# Altium footprint library Ahrist_Library.PcbLib: 172 footprints (part 10 of 11)
Each footprint in its own frame and in the unit in brackets; x right, y up, seen from the top. Pads: shape width x height; smd on the part's side, far side on the other; paste and mask are expansions set on the pad; w line width, h text height; cw(c..) or ccw(c..) is an arc to the next point about the centre after c.
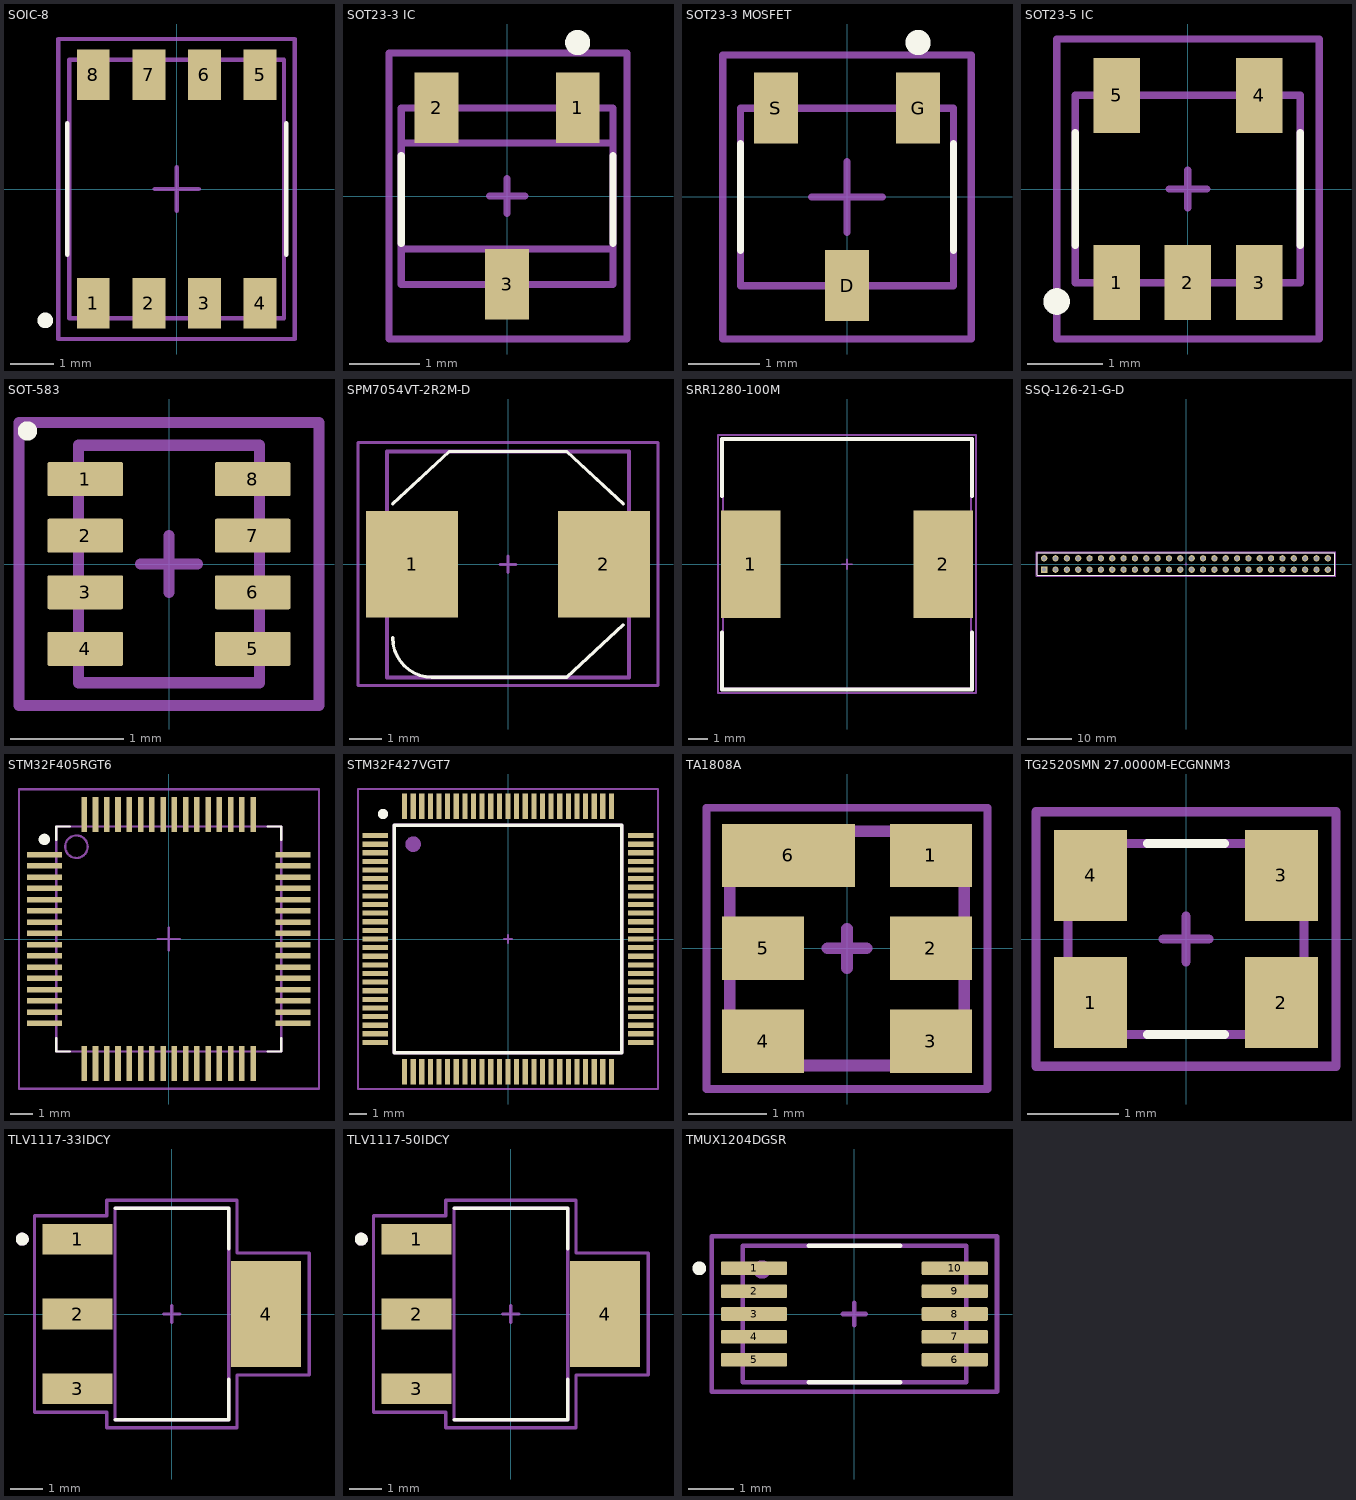
[diagram p9: the footprints below, top view; thin cyan lines are the x and y axes]

## SOIC-8 [mm] "SOIC-8 Analog Devices Spec"
pads (8):
  rect 0.75x1.15 smd mask+0.05: 1(-1.905,-2.605) 2(-0.635,-2.605) 3(0.635,-2.605) 4(1.905,-2.605) 5(1.905,2.605) 6(0.635,2.605) 7(-0.635,2.605) 8(-1.905,2.605)
Top Overlay:
  circle w0.254: c-3,-3 r0.05
  lines w0.1: -2.5,-1.5 -2.5,1.5 ; 2.5,-1.5 2.5,1.5
Top Courtyard:
  lines w0.1: -2.7,-3.425 -2.7,3.425 2.7,3.425 2.7,-3.425 -1.9,-3.425 -2.7,-3.425
Top Assembly:
  lines w0.1: -2.45,-2.95 -2.45,2.95 2.45,2.95 2.45,-2.95 -2.45,-2.95
Top Designator:
  text ".Designator" at -1.225,-0.339 h1.52
Top Component Center:
  lines w0.1: 0,-0.5 0,0 ; 0,0 0,0.5 0,0 ; 0,0 0.5,0 -0.5,0 0,0
3D body "SOIC8.STEP": height 1.5, standoff 0, extent -2.45,-2.95 2.45,2.95

## SOT23-3 IC [mm] "Diodes Incorporated SOT-23 land pattern with IC pin designators"
pads (3):
  rect 0.62x1 smd mask+0.05: 1(1,1.25) 2(-1,1.25) 3(0,-1.25)
Top Overlay:
  circle w0.254: c1,2.175 r0.05
  lines w0.1: -1.5,-0.675 -1.5,0.575 ; 1.5,-0.675 1.5,0.575
Top Courtyard:
  lines w0.1: -1.675,-2.025 -1.675,2.025 1.7,2.025 1.7,-2.025 -0.975,-2.025 -1.675,-2.025
Top Assembly:
  lines w0.1: -1.5,-1.25 -1.5,1.25 1.5,1.25 1.5,-1.25 -1.5,-1.25
Top Designator:
  text ".Designator" at -1.25,-0.464 h1.52
Top Component Outline:
  lines w0.1: -1.5,-0.75 1.5,-0.75 1.5,0.75 -1.5,0.75 -1.5,-0.75
Top Component Center:
  lines w0.1: 0,-0.25 0,0 ; 0,0 0,0.25 0,0 ; 0,0 0.25,0 -0.25,0 0,0
3D body "SOT23-3.stp": height 1.2, standoff 0.02, extent -1.5,-1.418 1.5,1.418

## SOT23-3 MOSFET [mm] "Diodes Incorporated SOT-23 land pattern with MOSFET pin designators"
pads (3):
  rect 0.62x1 smd: D(0,-1.25) G(1,1.25) S(-1,1.25)
Top Overlay:
  circle w0.254: c1,2.175 r0.05
  lines w0.1: -1.5,-0.75 -1.5,0.75 ; 1.5,-0.75 1.5,0.75
Top Courtyard:
  lines w0.1: -1.75,-2 -1.75,2 1.75,2 1.75,-2 -1,-2 -1.75,-2
Top Assembly:
  lines w0.1: -1.5,-1.25 -1.5,1.25 1.5,1.25 1.5,-1.25 -1.5,-1.25
  text ".Designator" at -1.25,-0.464 h1.52
Top Component Center:
  lines w0.1: -0.5,0 0,0 ; 0,-0.5 0,0 ; 0,0.5 0,0 ; 0.5,0 0,0
3D body "SOT23-3.stp": height 1.2, standoff 0.02, extent -1.5,-1.418 1.5,1.418

## SOT23-5 IC [mm] "SOT23-5"
pads (5):
  rect 0.62x1 smd mask+0.075: 1(-0.95,-1.25) 2(0,-1.25) 3(0.95,-1.25) 4(0.95,1.25) 5(-0.95,1.25)
Top Overlay:
  circle w0.254: c-1.75,-1.5 r0.05
  lines w0.1: -1.5,-0.75 -1.5,0.75 ; 1.5,-0.75 1.5,0.75
Top Courtyard:
  lines w0.1: -1.75,-2 -1,-2 1.75,-2 1.75,2 -1.75,2 -1.75,-2
Top Assembly:
  lines w0.1: -1.5,-1.25 1.5,-1.25 1.5,1.25 -1.5,1.25 -1.5,-1.25
Top Designator:
  text ".Designator" at -1.25,-0.464 h1.52
Top Component Outline:
  lines w0.1: -1.5,-1.25 1.5,-1.25 1.5,1.25 -1.5,1.25 -1.5,-1.25
Top Component Center:
  lines w0.1: 0,-0.25 0,0 ; 0,0 -0.25,0 0.25,0 0,0 ; 0,0 0,0.25 0,0
3D body "SOT23-5.stp": height 1.1, standoff 0, extent -1.5,-1.25 1.5,1.25

## SOT-583 [mm] "Texas Instruments SOT-583"
pads (8):
  rrect10% 0.67x0.3 smd mask+0.05: 1(-0.74,0.75) 2(-0.74,0.25) 3(-0.74,-0.25) 4(-0.74,-0.75) 5(0.74,-0.75) 6(0.74,-0.25) 7(0.74,0.25) 8(0.74,0.75)
Top Overlay:
  circle w0.1: c-1.25,1.175 r0.035
Top Courtyard:
  lines w0.1: -1.325,-1.25 -0.7,-1.25 1.325,-1.25 1.325,-0.8 1.325,1.25 0.7,1.25 -1.325,1.25 -1.325,0.8 -1.325,-1.25
Top Assembly:
  circle w0.1: c-0.575,0.75 r0.035
  lines w0.1: 0.15,-1.05 0.8,-1.05 0.8,1.05 -0.8,1.05 -0.8,-1.05 0.4,-1.05
Top Designator:
  text ".Designator" at -0.4,-0.162 h1
Top Component Outline:
  lines w0.1: 0.15,-1.05 0.8,-1.05 0.8,1.05 -0.8,1.05 -0.8,-1.05 0.4,-1.05
Top Component Center:
  lines w0.1: 0,-0.25 0,0 ; 0,0 0,0.25 0,0 ; 0,0 0.25,0 -0.25,0 0,0
3D body "TPS62933PDRLR--3DModel-STEP-740395.STEP": height 0.6, standoff 0, extent -0.8,-1.05 0.8,1.05

## SPM7054VT-2R2M-D [mm] "SPM7054VT-2R2M-D"
pads (2):
  rect 2.85x3.3 smd mask+0.05: 1(-2.975,0) 2(2.975,0)
Top Overlay:
  lines w0.1: -3.575,-2.275 ccw(c-2.35,-2.275) -2.35,-3.5 ; -3.575,1.875 -1.825,3.5 1.825,3.5 3.575,1.875 ; -2.375,-3.5 1.825,-3.5 3.575,-1.875
Top Courtyard:
  lines w0.1: -4.65,-3.75 4.65,-3.75 4.65,3.775 -4.65,3.775 -4.65,-3.75
Top Assembly:
  lines w0.127: -3.75,-3.5 -3.75,3.5 3.75,3.5 3.75,-3.5 -3.75,-3.5
Top Designator:
  text ".Designator" at -0.471,-0.137 h1
Top Component Outline:
  lines w0.127: -3.75,-3.5 3.75,-3.5 3.75,3.5 -3.75,3.5 -3.75,-3.5
Top Component Center:
  lines w0.1: 0,-0.25 0,0 ; 0,0 0,0.25 0,0 ; 0,0 0.25,0 0,0 ; 0,0 -0.25,0 0,0
3D body "step_temp.STEP": height 5.4, standoff 0, extent -3.75,-3.5 3.75,3.5

## SRR1280-100M [mm] "12.50mm x 12.50mm Inductor"
pads (2):
  rect 3x5.4 smd mask+0.05: 1(-4.85,0) 2(4.85,0)
Top Overlay:
  lines w0.2: -6.3,-3.425 -6.3,-6.3 6.3,-6.3 6.3,-3.425 ; -6.3,3.425 -6.3,6.3 6.3,6.3 6.3,3.425
Top Courtyard:
  lines w0.1: 6.425,-6.475 6.5,-6.475 6.5,6.5 -6.5,6.5 -6.5,6.125 -6.5,-6.475 6.45,-6.475
Top Assembly:
  lines w0.1: -0.3,-6.25 6.25,-6.25 6.25,6.25 -6.25,6.25 -6.25,-6.25 -0.275,-6.25
Top Designator:
  text ".Designator" at -0.5,-0.237 h1
Top Component Outline:
  lines w0.1: -0.3,-6.25 6.25,-6.25 6.25,6.25 -6.25,6.25 -6.25,-6.25 -0.275,-6.25
Top Component Center:
  lines w0.1: 0,-0.25 0,0 ; 0,0 0,0.25 0,0 ; 0,0 0.25,0 -0.25,0 0,0
3D body "srr1280-100m.stp": height 7.5, standoff 0, extent -6.25,-6.25 6.25,6.25

## SSQ-126-21-G-D [mm] "52 Position 0.100\" Header"
pads (52):
  rect 1.398x1.398 hole 0.89 mask+0.05: 1(-31.75,-1.27)
  round 1.398 hole 0.89 mask+0.05: 2(-29.21,-1.27) 3(-26.67,-1.27) 4(-24.13,-1.27) 5(-21.59,-1.27) 6(-19.05,-1.27) 7(-16.51,-1.27) 8(-13.97,-1.27) 9(-11.43,-1.27) 10(-8.89,-1.27) 11(-6.35,-1.27) 12(-3.81,-1.27) 13(-1.27,-1.27) 14(1.27,-1.27) 15(3.81,-1.27) 16(6.35,-1.27) 17(8.89,-1.27) 18(11.43,-1.27) 19(13.97,-1.27) 20(16.51,-1.27) 21(19.05,-1.27) 22(21.59,-1.27) 23(24.13,-1.27) 24(26.67,-1.27) 25(29.21,-1.27) 26(31.75,-1.27) 27(-31.75,1.27) 28(-29.21,1.27) 29(-26.67,1.27) 30(-24.13,1.27) 31(-21.59,1.27) 32(-19.05,1.27) 33(-16.51,1.27) 34(-13.97,1.27) 35(-11.43,1.27) 36(-8.89,1.27) 37(-6.35,1.27) 38(-3.81,1.27) 39(-1.27,1.27) 40(1.27,1.27) 41(3.81,1.27) 42(6.35,1.27) 43(8.89,1.27) 44(11.43,1.27) 45(13.97,1.27) 46(16.51,1.27) 47(19.05,1.27) 48(21.59,1.27) 49(24.13,1.27) 50(26.67,1.27) 51(29.21,1.27) 52(31.75,1.27)
Top Overlay:
  lines w0.2: -33.275,-2.475 -33.275,-1.4 -33.275,2.475 33.275,2.475 33.275,-2.475 -33.275,-2.475
Top Courtyard:
  lines w0.2: -33.575,-1 -33.575,2.775 33.575,2.775 33.575,-2.775 -33.575,-2.775 -33.575,-0.6
Top Assembly:
  lines w0.2: -33.275,0.75 -33.275,2.475 33.275,2.475 33.275,-2.475 -33.275,-2.475 -33.275,0.775
Top Designator:
  text ".Designator" at -0.85,-0.062 h1
Top Component Center:
  lines w0.1: 0,-0.25 0,0 ; 0,0 0,0.25 0,0 ; 0,0 0.25,0 -0.25,0 0,0
3D body "SSQ-126-21-G-D.stp": height 8.51, standoff -2.64, extent -33.274,-2.476 33.274,2.476

## STM32F405RGT6 [mm] "ARM® Cortex®-M4 STM32F4 Microcontroller IC 32-Bit Single-Core 168MHz 1MB (1M x 8) FLASH 64-LQFP (10x10)"
pads (64):
  rect 1.55x0.25 smd mask+0.05: 1(-5.525,3.75) 2(-5.525,3.25) 3(-5.525,2.75) 4(-5.525,2.25) 5(-5.525,1.75) 6(-5.525,1.25) 7(-5.525,0.75) 8(-5.525,0.25) 9(-5.525,-0.25) 10(-5.525,-0.75) 11(-5.525,-1.25) 12(-5.525,-1.75) 13(-5.525,-2.25) 14(-5.525,-2.75) 15(-5.525,-3.25) 16(-5.525,-3.75) 33(5.525,-3.75) 34(5.525,-3.25) 35(5.525,-2.75) 36(5.525,-2.25) 37(5.525,-1.75) 38(5.525,-1.25) 39(5.525,-0.75) 40(5.525,-0.25) 41(5.525,0.25) 42(5.525,0.75) 43(5.525,1.25) 44(5.525,1.75) 45(5.525,2.25) 46(5.525,2.75) 47(5.525,3.25) 48(5.525,3.75)
  rect 0.25x1.55 smd mask+0.05: 17(-3.75,-5.525) 18(-3.25,-5.525) 19(-2.75,-5.525) 20(-2.25,-5.525) 21(-1.75,-5.525) 22(-1.25,-5.525) 23(-0.75,-5.525) 24(-0.25,-5.525) 25(0.25,-5.525) 26(0.75,-5.525) 27(1.25,-5.525) 28(1.75,-5.525) 29(2.25,-5.525) 30(2.75,-5.525) 31(3.25,-5.525) 32(3.75,-5.525) 49(3.75,5.525) 50(3.25,5.525) 51(2.75,5.525) 52(2.25,5.525) 53(1.75,5.525) 54(1.25,5.525) 55(0.75,5.525) 56(0.25,5.525) 57(-0.25,5.525) 58(-0.75,5.525) 59(-1.25,5.525) 60(-1.75,5.525) 61(-2.25,5.525) 62(-2.75,5.525) 63(-3.25,5.525) 64(-3.75,5.525)
Top Overlay:
  circle w0.25: c-5.525,4.425 r0.125
  lines w0.1: -5,-4.4 -5,-5 -4.4,-5 ; -5,4.4 -5,5 ; 4.4,-5 5,-5 5,-4.4 ; 4.4,5 5,5 5,4.4 ; -5,5 -4.4,5 -5,5
Top Courtyard:
  lines w0.1: -6.65,-6.65 -6.65,6.65 6.675,6.65 6.675,-6.65 -6.65,-6.65
Top Assembly:
  circle w0.1: c-4.1,4.1 r0.5
  lines w0.1: -5,-5 5,-5 5,5 -5,5 -5,-5
  text ".Designator" at -1.25,-0.083 h0.5
Top Component Center:
  lines w0.1: -0.5,0 0.5,0 ; 0,-0.5 0,0.5
3D body "STM32F405RGT6.STEP": height 1.6, standoff 0, extent -6,-6 6,6

## STM32F427VGT7 [mm] "LQFP-100"
pads (100):
  rect 1.5x0.3 smd mask+0.05: 1(-7.7,6) 2(-7.7,5.5) 3(-7.7,5) 4(-7.7,4.5) 5(-7.7,4) 6(-7.7,3.5) 7(-7.7,3) 8(-7.7,2.5) 9(-7.7,2) 10(-7.7,1.5) 11(-7.7,1) 12(-7.7,0.5) 13(-7.7,0) 14(-7.7,-0.5) 15(-7.7,-1) 16(-7.7,-1.5) 17(-7.7,-2) 18(-7.7,-2.5) 19(-7.7,-3) 20(-7.7,-3.5) 21(-7.7,-4) 22(-7.7,-4.5) 23(-7.7,-5) 24(-7.7,-5.5) 25(-7.7,-6) 51(7.7,-6) 52(7.7,-5.5) 53(7.7,-5) 54(7.7,-4.5) 55(7.7,-4) 56(7.7,-3.5) 57(7.7,-3) 58(7.7,-2.5) 59(7.7,-2) 60(7.7,-1.5) 61(7.7,-1) 62(7.7,-0.5) 63(7.7,0) 64(7.7,0.5) 65(7.7,1) 66(7.7,1.5) 67(7.7,2) 68(7.7,2.5) 69(7.7,3) 70(7.7,3.5) 71(7.7,4) 72(7.7,4.5) 73(7.7,5) 74(7.7,5.5) 75(7.7,6)
  rect 0.3x1.5 smd mask+0.05: 26(-6,-7.7) 27(-5.5,-7.7) 28(-5,-7.7) 29(-4.5,-7.7) 30(-4,-7.7) 31(-3.5,-7.7) 32(-3,-7.7) 33(-2.5,-7.7) 34(-2,-7.7) 35(-1.5,-7.7) 36(-1,-7.7) 37(-0.5,-7.7) 38(0,-7.7) 39(0.5,-7.7) 40(1,-7.7) 41(1.5,-7.7) 42(2,-7.7) 43(2.5,-7.7) 44(3,-7.7) 45(3.5,-7.7) 46(4,-7.7) 47(4.5,-7.7) 48(5,-7.7) 49(5.5,-7.7) 50(6,-7.7) 76(6,7.7) 77(5.5,7.7) 78(5,7.7) 79(4.5,7.7) 80(4,7.7) 81(3.5,7.7) 82(3,7.7) 83(2.5,7.7) 84(2,7.7) 85(1.5,7.7) 86(1,7.7) 87(0.5,7.7) 88(0,7.7) 89(-0.5,7.7) 90(-1,7.7) 91(-1.5,7.7) 92(-2,7.7) 93(-2.5,7.7) 94(-3,7.7) 95(-3.5,7.7) 96(-4,7.7) 97(-4.5,7.7) 98(-5,7.7) 99(-5.5,7.7) 100(-6,7.7)
Top Overlay:
  circle w0.5: c-7.25,7.25 r0.05
  lines w0.2: -6.6,-6.6 -6.6,6.6 6.6,6.6 6.6,-6.6 -6.6,-6.6
Top Courtyard:
  lines w0.1: -8.7,-8.7 -8.7,8.7 8.7,8.7 8.7,-8.7 -8.7,-8.7
Top Assembly:
  circle w0.5: c-5.5,5.5 r0.2
  lines w0.2: -6.6,-6.6 -6.6,6.6 6.6,6.6 6.6,-6.6 -6.6,-6.6
Top Designator:
  text ".Designator" at -0.5,-0.062 h1
Top Component Outline:
  lines w0.2: -6.6,-6.6 -6.6,6.6 6.6,6.6 6.6,-6.6 -6.6,-6.6
Top Component Center:
  lines w0.1: 0,-0.25 0,0 ; 0,0 0,0.25 0,0 ; 0,0 0.25,0 -0.25,0 0,0
3D body "step_temp.STEP": height 1.6, standoff 0, extent -8,-8 8,8

## TA1808A [mm] "FILTER SAW 440MHZ 6-SMD"
pads (7):
  rect 1.05x0.81 smd mask+0.07: 1(1.075,1.19) 1(1.075,1.19) 2(1.075,0) 3(1.075,-1.19) 4(-1.075,-1.19) 5(-1.075,0)
  rect 1.7x0.81 smd mask+0.07: 6(-0.75,1.19)
Top Courtyard:
  lines w0.1: -1.8,-1.8 -1.8,-0.3 -1.8,1.8 1.8,1.8 1.8,-1.8 -1.8,-1.8
Top Assembly:
  circle w0.2: c-0.9,1 r0.1
  lines w0.1: 0,-1.5 1.5,-1.5 1.5,1.5 -1.5,1.5 -1.5,-1.5 0.025,-1.5
Top Designator:
  text ".Designator" at -0.44,-0.115 h0.6
Top Component Outline:
  lines w0.15: 0,-1.5 1.5,-1.5 1.5,1.5 -1.5,1.5 -1.5,-1.5 0.025,-1.5
Top Component Center:
  lines w0.15: 0,-0.25 0,0 ; 0,0 0,0.25 0,0 ; 0,0 0.25,0 -0.25,0 0,0
3D body "User Library-TA1163A.STEP": height 1.45, standoff -0.05, extent -1.5,-1.5 1.5,1.5

## TCA9511A [mm] "8-VSSOP"

## TG2520SMN 27.0000M-ECGNNM3 [mm] "XTAL OSC TCXO 27.0000MHZ CSWV SM"
pads (4):
  rect 0.8x1 smd mask+0.075: 1(-1.05,-0.7) 2(1.05,-0.7) 3(1.05,0.7) 4(-1.05,0.7)
Top Overlay:
  lines w0.1: -0.425,-1.05 0.425,-1.05 ; -0.425,1.05 0.425,1.05
Top Courtyard:
  lines w0.1: -1.65,-0.925 -1.65,1.4 -1.2,1.4 ; -1.65,-0.9 -1.65,-1.4 1.65,-1.4 1.65,1.4 -1.35,1.4
Top Assembly:
  circle w0.1: c-1,-0.7 r0.05
  lines w0.1: -1.3,-1.05 0.325,-1.05 1.3,-1.05 1.3,1.05 -1.3,1.05 -1.3,-1.05
Top Designator:
  text ".Designator" at -0.64,-0.24 h0.6
Top Component Outline:
  lines w0.1: -1.3,-1.05 0.325,-1.05 1.3,-1.05 1.3,1.05 -1.3,1.05 -1.3,-1.05
Top Component Center:
  lines w0.1: 0,-0.25 0,0 ; 0,0 0,0.25 0,0 ; 0,0 0.25,0 -0.25,0 0,0
3D body "TG2520SMN.stp": height 0.8, standoff -0.01, extent -1.3,-1.05 1.3,1.05

## TLV1117-33IDCY [mm] "4-SOT-223"
pads (4):
  rect 2.15x0.95 smd: 1(-2.9,2.3) 2(-2.9,0) 3(-2.9,-2.3)
  rect 2.15x3.25 smd: 4(2.9,0)
Top Overlay:
  circle w0.2: c-4.6,2.3 r0.1
  lines w0.1: -1.75,-3.25 1.75,-3.25 1.75,-2.01 ; -1.75,3.25 1.75,3.25 1.75,2.01
Top Courtyard:
  lines w0.1: -4.225,-3.025 -4.225,3.025 -2,3.025 -2,3.5 2,3.5 2,1.875 4.225,1.875 4.225,-1.875 2,-1.875 2,-3.5 -2,-3.5 -2,-3.025 -4.225,-3.025
Top Assembly:
  circle w0.2: c-4.6,2.3 r0.1
  lines w0.1: -1.75,-3.25 -1.75,3.25 1.75,3.25 1.75,-3.25 -1.75,-3.25
Top Designator:
  text ".Designator" at -0.59,-0.14 h0.6
Top Component Outline:
  lines w0.1: -1.75,-3.25 -1.75,3.25 1.75,3.25 1.75,-3.25 -1.75,-3.25
Top Component Center:
  lines w0.1: 0,-0.25 0,0 ; 0,0 0,0.25 0,0 ; 0,0 0.25,0 -0.25,0 0,0
3D body "step_temp.STEP": height 1.8, standoff 0, extent -3.499,-3.25 3.499,3.25

## TLV1117-50IDCY [mm] "4-SOT-223"
pads (4):
  rect 2.15x0.95 smd: 1(-2.9,2.3) 2(-2.9,0) 3(-2.9,-2.3)
  rect 2.15x3.25 smd: 4(2.9,0)
Top Overlay:
  circle w0.2: c-4.6,2.3 r0.1
  lines w0.1: -1.75,-3.25 1.75,-3.25 1.75,-2.01 ; -1.75,3.25 1.75,3.25 1.75,2.01
Top Courtyard:
  lines w0.1: -4.225,-3.025 -4.225,3.025 -2,3.025 -2,3.5 2,3.5 2,1.875 4.225,1.875 4.225,-1.875 2,-1.875 2,-3.5 -2,-3.5 -2,-3.025 -4.225,-3.025
Top Assembly:
  circle w0.2: c-4.6,2.3 r0.1
  lines w0.1: -1.75,-3.25 -1.75,3.25 1.75,3.25 1.75,-3.25 -1.75,-3.25
Top Designator:
  text ".Designator" at -0.59,-0.14 h0.6
Top Component Outline:
  lines w0.1: -1.75,-3.25 -1.75,3.25 1.75,3.25 1.75,-3.25 -1.75,-3.25
Top Component Center:
  lines w0.1: 0,-0.25 0,0 ; 0,0 0,0.25 0,0 ; 0,0 0.25,0 -0.25,0 0,0
3D body "step_temp.STEP": height 1.8, standoff 0, extent -3.499,-3.25 3.499,3.25

## TMUX1204DGSR [mm] "TMUX1204DGSR  10VSSOP"
pads (10):
  rrect20% 1.45x0.3 smd mask+0.075: 1(-2.2,1) 2(-2.2,0.5) 3(-2.2,0) 4(-2.2,-0.5) 5(-2.2,-1) 6(2.2,-1) 7(2.2,-0.5) 8(2.2,0) 9(2.2,0.5) 10(2.2,1)
Top Overlay:
  circle w0.2: c-3.4,1 r0.05
  lines w0.1: -1,-1.5 0,-1.5 1,-1.5 ; -1,1.5 0,1.5 1,1.5
Top Courtyard:
  lines w0.1: -3.125,-0.5 -3.125,1.7 1.25,1.7 3.125,1.7 3.125,0.5 3.125,-1.7 -1.25,-1.7 ; -3.125,-0.475 -3.125,-1.7 -1.225,-1.7
Top Assembly:
  circle w0.2: c-2.025,0.975 r0.1
  lines w0.1: -2.45,-1.425 -2.45,1.5 2.45,1.5 2.45,-1.5 -2.45,-1.5 -2.45,-1.4
Top Designator:
  text ".Designator" at -0.865,-0.04 h0.6
Top Component Center:
  lines w0.1: 0,-0.25 0,0 ; 0,0 0,0.25 0,0 ; 0,0 0.25,0 -0.25,0 0,0
3D body "TMUX1204DGSR.step": height 1.1, standoff 0, extent -2.45,-1.5 2.45,1.5